# Altium schematic symbol library RP2040_minimal.SchLib: 10 symbols
Pins are listed as number, name and electrical type; pins without a type are passive.

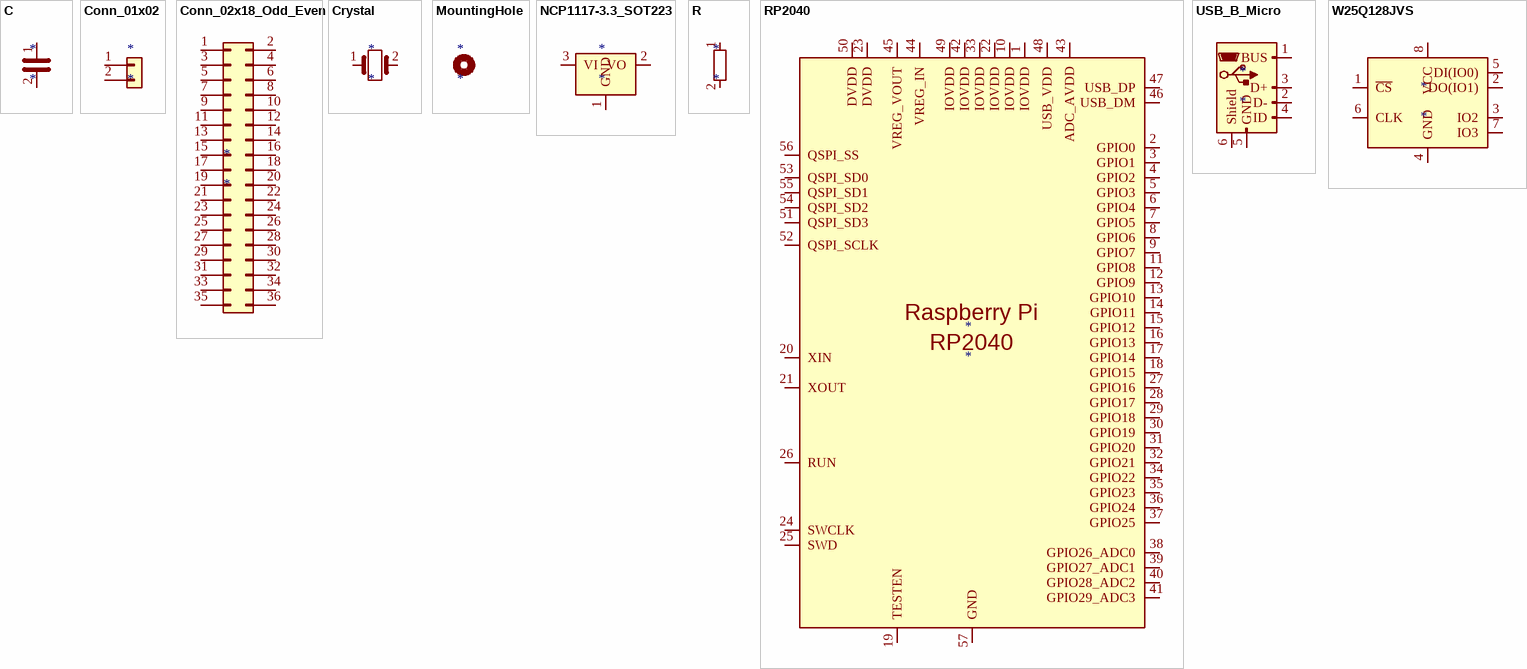
[diagram p0: symbols C to W25Q128JVS]

## C
designator *
pins: 1, 2

## Conn_01x02
designator *
pins: 1 Pin_1, 2 Pin_2

## Conn_02x18_Odd_Even
designator *
pins: 1 Pin_1, 2 Pin_2, 3 Pin_3, 4 Pin_4, 5 Pin_5, 6 Pin_6, 7 Pin_7, 8 Pin_8, 9 Pin_9, 10 Pin_10, 11 Pin_11, 12 Pin_12, 13 Pin_13, 14 Pin_14, 15 Pin_15, 16 Pin_16, 17 Pin_17, 18 Pin_18, 19 Pin_19, 20 Pin_20, 21 Pin_21, 22 Pin_22, 23 Pin_23, 24 Pin_24, 25 Pin_25, 26 Pin_26, 27 Pin_27, 28 Pin_28, 29 Pin_29, 30 Pin_30, 31 Pin_31, 32 Pin_32, 33 Pin_33, 34 Pin_34, 35 Pin_35, 36 Pin_36

## Crystal
designator *
pins: 1, 2

## MountingHole
designator *

## NCP1117-3.3_SOT223
designator *
pins: 1 GND, 2 VO, 3 VI

## R
designator *
pins: 1, 2

## RP2040
designator *
pins: 1 IOVDD, 2 GPIO0, 3 GPIO1, 4 GPIO2, 5 GPIO3, 6 GPIO4, 7 GPIO5, 8 GPIO6, 9 GPIO7, 10 IOVDD, 11 GPIO8, 12 GPIO9, 13 GPIO10, 14 GPIO11, 15 GPIO12, 16 GPIO13, 17 GPIO14, 18 GPIO15, 19 TESTEN, 20 XIN, 21 XOUT, 22 IOVDD, 23 DVDD, 24 SWCLK, 25 SWD, 26 RUN, 27 GPIO16, 28 GPIO17, 29 GPIO18, 30 GPIO19, 31 GPIO20, 32 GPIO21, 33 IOVDD, 34 GPIO22, 35 GPIO23, 36 GPIO24, 37 GPIO25, 38 GPIO26_ADC0, 39 GPIO27_ADC1, 40 GPIO28_ADC2, 41 GPIO29_ADC3, 42 IOVDD, 43 ADC_AVDD, 44 VREG_IN, 45 VREG_VOUT, 46 USB_DM, 47 USB_DP, 48 USB_VDD, 49 IOVDD, 50 DVDD, 51 QSPI_SD3, 52 QSPI_SCLK, 53 QSPI_SD0, 54 QSPI_SD2, 55 QSPI_SD1, 56 QSPI_SS, 57 GND
text: Raspberry Pi

## USB_B_Micro
designator *
pins: 1 VBUS, 2 D-, 3 D+, 4 ID, 5 GND, 6 Shield

## W25Q128JVS
designator *
pins: 1 ~{CS}, 2 DO(IO1), 3 IO2, 4 GND, 5 DI(IO0), 6 CLK, 7 IO3, 8 VCC